# Altium footprint library 430152050XXX.PcbLib: 1 footprints
Each footprint in its own frame and in the unit in brackets; x right, y up, seen from the top. Pads: shape width x height; smd on the part's side, far side on the other; paste and mask are expansions set on the pad; w line width, h text height; cw(c..) or ccw(c..) is an arc to the next point about the centre after c.
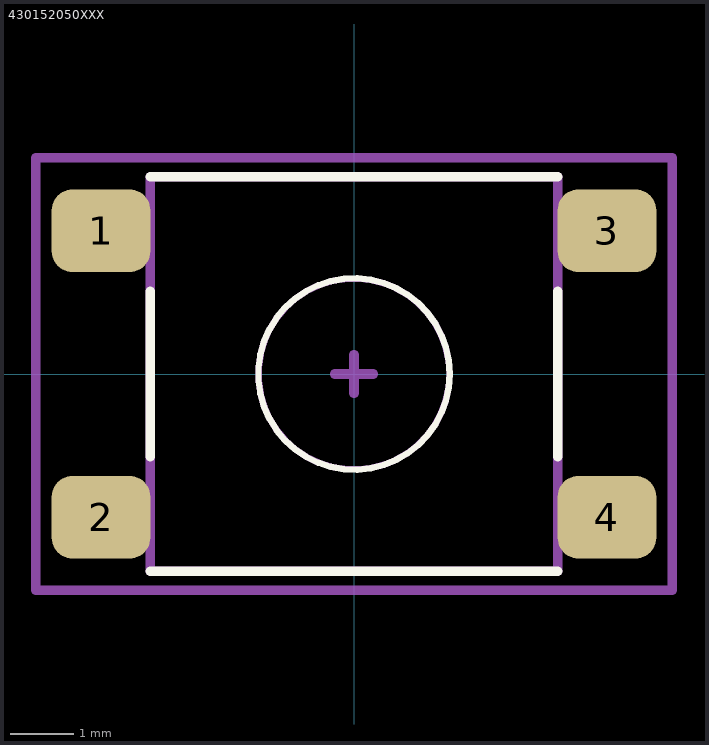
[diagram p0: the footprint, top view; thin cyan lines are the x and y axes]

## 430152050XXX [mm]
pads (4):
  rrect50% 1.55x1.3 smd mask+0.05: 1(-3.975,2.25) 2(-3.975,-2.25) 3(3.975,2.25) 4(3.975,-2.25)
Top Overlay:
  circle w0.1: c0,0 r1.503
  lines w0.15: -3.2,-3.1 3.2,-3.1 ; -3.2,-1.3 -3.2,0 -3.2,1.3 ; -3.2,3.1 3.2,3.1 ; 3.2,-1.3 3.2,0 3.2,1.3
Top Assembly:
  circle w0.1: c0,0 r1.5
  lines w0.15: -3.2,-3.1 3.2,-3.1 3.2,3.1 -3.2,3.1 -3.2,-3.1
Top Courtyard:
  lines w0.15: -0.3,0 0.3,0 ; 0,-0.3 0,0.3 ; -5,-3.4 -5,3.4 5,3.4 5,-3.4 -5,-3.4
3D body "430152050836 (rev1).stp": height 5, standoff 0, extent -4.5,-3.1 4.5,3.1